# Altium footprint library CON6 - MILL-MAX_830-10-006-10-005000.PcbLib: 1 footprints
Each footprint in its own frame and in the unit in brackets; x right, y up, seen from the top. Pads: shape width x height; smd on the part's side, far side on the other; paste and mask are expansions set on the pad; w line width, h text height; cw(c..) or ccw(c..) is an arc to the next point about the centre after c.
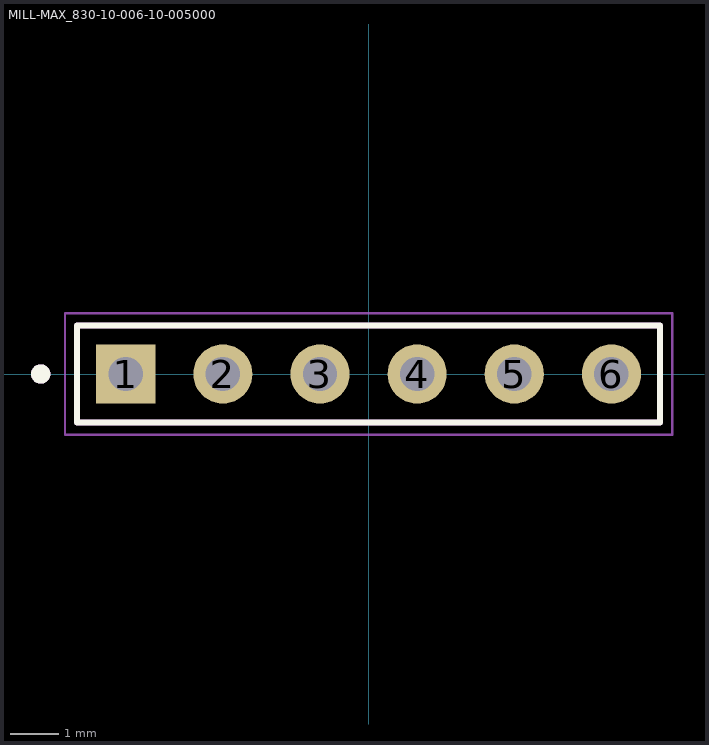
[diagram p0: the footprint, top view; thin cyan lines are the x and y axes]

## MILL-MAX_830-10-006-10-005000 [mm]
pads (6):
  rect 1.218x1.218 hole 0.71: 1(-5,0)
  round 1.218 hole 0.71: 2(-3,0) 3(-1,0) 4(1,0) 5(3,0) 6(5,0)
Top Overlay:
  circle w0.2: c-6.75,0 r0.1
  lines w0.127: -6,-1 -6,1 6,1 6,-1 -6,-1
Mechanical 13:
  circle w0.2: c-6.75,0 r0.1
  lines w0.127: -6,-1 -6,1 6,1 6,-1 -6,-1
Mechanical 15:
  lines w0.05: -6.25,-1.25 -6.25,1.25 6.25,1.25 6.25,-1.25 -6.25,-1.25
3D body "step_temp.STEP": height 6.86, standoff -3.17, extent -6,-1 6,1